# Altium footprint library SkillDevPCBLib.PcbLib: 3 footprints
Each footprint in its own frame and in the unit in brackets; x right, y up, seen from the top. Pads: shape width x height; smd on the part's side, far side on the other; paste and mask are expansions set on the pad; w line width, h text height; cw(c..) or ccw(c..) is an arc to the next point about the centre after c.
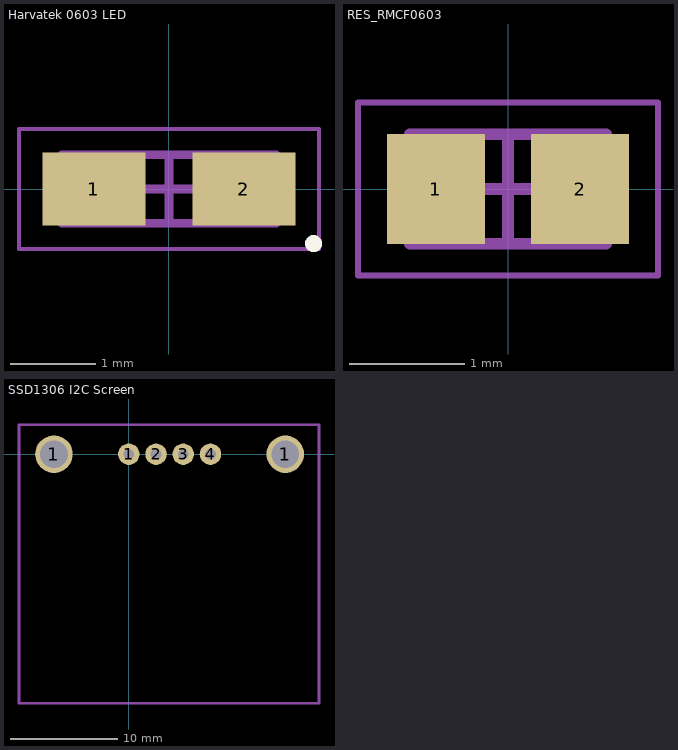
[diagram p0: the footprints below, top view; thin cyan lines are the x and y axes]

## Harvatek 0603 LED [mm]
height 0.4
pads (2):
  rect 1.2x0.85 smd: 1(-0.875,0) 2(0.875,0)
Top Overlay:
  circle w0.1: c1.687,-0.637 r0.05
Mechanical 13:
  lines w0.1: -1.25,-0.4 1.25,-0.4 1.25,0.4 -1.25,0.4 -1.25,-0.4
Mechanical 15:
  lines w0.05: -1.75,-0.7 1.75,-0.7 1.75,0.7 -1.75,0.7 -1.75,-0.7
  lines w0.1: -0.4,0 0.4,0 ; 0,-0.4 0,0.4
3D body "Harvatek 0603 LED.step": height 0.4, standoff 0, extent -1.25,-0.4 1.25,0.4

## RES_RMCF0603 [mm] "Footprint for RMCF0603FT10K0 Resistor"
height 0.6
pads (2):
  rect 0.85x0.95 smd: 1(-0.625,0) 2(0.625,0)
Mechanical 13:
  lines w0.1: -0.85,-0.475 -0.85,0.475 0.85,0.475 0.85,-0.475 -0.85,-0.475
Mechanical 15:
  lines w0.05: -1.3,-0.75 -1.3,0.75 1.3,0.75 1.3,-0.75 -1.3,-0.75
  lines w0.1: -0.475,0 0.475,0 ; 0,-0.475 0,0.475
3D body: height 0.6, standoff 0, extent -0.55,-0.475 0.55,0.475
3D body: height 0.6, standoff 0, extent -0.85,-0.475 -0.55,0.475
3D body: height 0.6, standoff 0, extent 0.55,-0.475 0.85,0.475

## SSD1306 I2C Screen [mm] "Footprint for SSD1306 I2C screen on seperate board"
pads (6):
  round 3.5 hole 2.6: 1(-6.985,0) 1(14.605,0)
  round 2 hole 1: 1(0,0) 2(2.54,0) 3(5.08,0) 4(7.62,0)
Mechanical 1:
  lines w0.254: -10.25,-23.25 17.75,-23.25 17.75,2.75 -10.25,2.75 -10.25,-23.25